# Altium footprint library 2ohmVishay.PcbLib: 3 footprints
Each footprint in its own frame and in the unit in brackets; x right, y up, seen from the top. Pads: shape width x height; smd on the part's side, far side on the other; paste and mask are expansions set on the pad; w line width, h text height; cw(c..) or ccw(c..) is an arc to the next point about the centre after c.
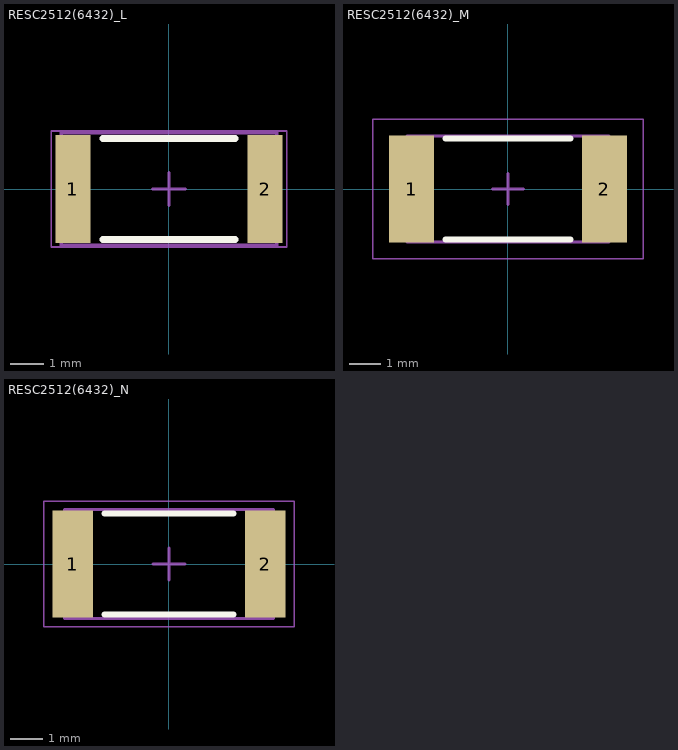
[diagram p0: the footprints below, top view; thin cyan lines are the x and y axes]

## RESC2512(6432)_L [mm] "Chip Resistor, Body 6.4x3.2mm, IPC High Density"
height 0.75
pads (2):
  rect 1.05x3.25 smd: 1(-2.9,0) 2(2.9,0)
Top Overlay:
  lines w0.2: -2,-1.525 2,-1.525 ; -2,1.525 2,1.525
Mechanical 13:
  lines w0.1: -3.25,-1.7 -3.25,1.7 3.25,1.7 3.25,-1.7 -3.25,-1.7
Mechanical 15:
  lines w0.05: -3.55,-1.75 -3.55,1.75 3.55,1.75 3.55,-1.75 -3.55,-1.75
  lines w0.1: -0.5,0 0.5,0 ; 0,-0.5 0,0.5
3D body: height 0.75, standoff 0, extent 2.63,-1.7 3.25,1.7
3D body: height 0.75, standoff 0, extent -2.63,-1.7 2.63,1.7
3D body: height 0.75, standoff 0, extent -3.25,-1.7 -2.63,1.7

## RESC2512(6432)_M [mm] "Chip Resistor, Body 6.4x3.2mm, IPC Low Density"
height 0.75
pads (2):
  rect 1.45x3.45 smd: 1(-3.1,0) 2(3.1,0)
Top Overlay:
  lines w0.2: -2,-1.625 2,-1.625 ; -2,1.625 2,1.625
Mechanical 13:
  lines w0.1: -3.25,-1.7 -3.25,1.7 3.25,1.7 3.25,-1.7 -3.25,-1.7
Mechanical 15:
  lines w0.05: -4.35,-2.25 -4.35,2.25 4.35,2.25 4.35,-2.25 -4.35,-2.25
  lines w0.1: -0.5,0 0.5,0 ; 0,-0.5 0,0.5
3D body: height 0.75, standoff 0, extent -3.25,-1.7 -2.63,1.7
3D body: height 0.75, standoff 0, extent -2.63,-1.7 2.63,1.7
3D body: height 0.75, standoff 0, extent 2.63,-1.7 3.25,1.7

## RESC2512(6432)_N [mm] "Chip Resistor, Body 6.4x3.2mm, IPC Medium Density"
height 0.75
pads (2):
  rect 1.25x3.35 smd: 1(-3,0) 2(3,0)
Top Overlay:
  lines w0.2: -2,-1.575 2,-1.575 ; -2,1.575 2,1.575
Mechanical 13:
  lines w0.1: -3.25,-1.7 -3.25,1.7 3.25,1.7 3.25,-1.7 -3.25,-1.7
Mechanical 15:
  lines w0.05: -3.9,-1.95 -3.9,1.95 3.9,1.95 3.9,-1.95 -3.9,-1.95
  lines w0.1: -0.5,0 0.5,0 ; 0,-0.5 0,0.5
3D body: height 0.75, standoff 0, extent 2.63,-1.7 3.25,1.7
3D body: height 0.75, standoff 0, extent -2.63,-1.7 2.63,1.7
3D body: height 0.75, standoff 0, extent -3.25,-1.7 -2.63,1.7